# EAGLE library part ADC-10-1R+ (library minicircuits)
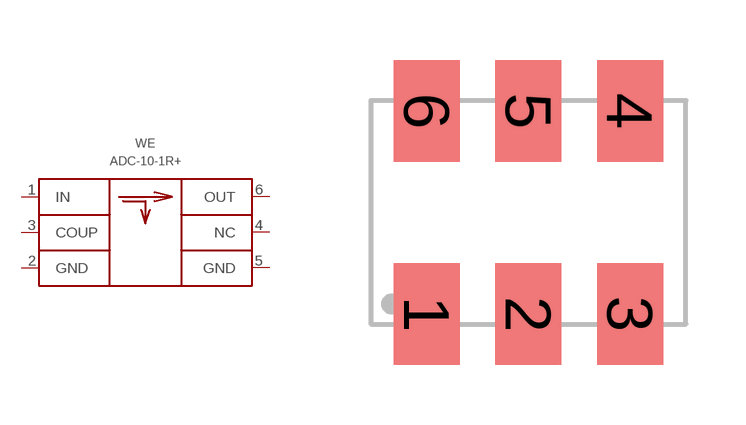
[diagram p3: symbol with the pads of CD542; footprint CD542]

Designator prefix WE

## ADC-10-1R+  [CD542]
1  IN  pas
2  GND  pwr
3  COUP  pas
4  NC  nc
5  GND  pwr
6  OUT  pas

## Footprint CD542 (pad centres in mm)
smd 1.651 x 2.54: 1 -2.54,-2.54; 2 0,-2.54; 3 2.54,-2.54; 4 2.54,2.54; 5 0,2.54; 6 -2.54,2.54